# EAGLE library part CONN-6P (library pinconn)
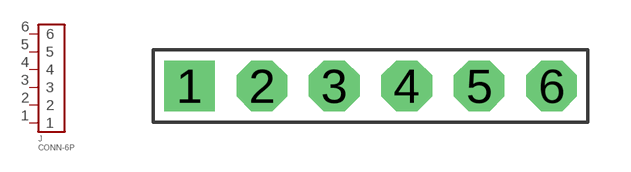
[diagram p4: symbol with the pads of CONN-6P; footprint CONN-6P]

Designator prefix J

## CONN-6P  [CONN-6P]
1  1  pas
2  2  pas
3  3  pas
4  4  pas
5  5  pas
6  6  pas

## Footprint CONN-6P (pad centres in mm)
drill 0.9 pad 1.778 square: 1 -6.35,0
drill 0.9 pad 1.778 octagon: 2 -3.81,0; 3 -1.27,0; 4 1.27,0; 5 3.81,0; 6 6.35,0